# EAGLE library part B13B-EH-A (library con-jst-eh)
HEADER
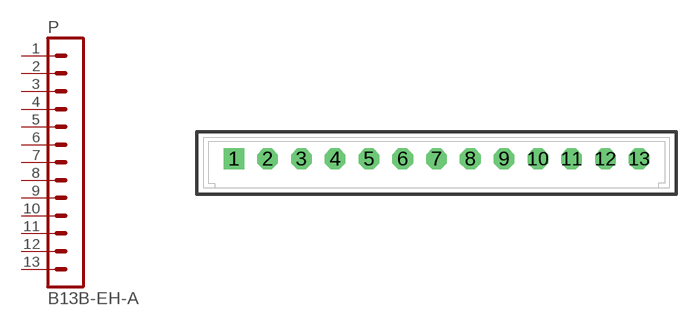
[diagram p7: symbol with the pads of B13B-EH-A; footprint B13B-EH-A]

Designator prefix P

## B13B-EH-A  [B13B-EH-A]
1  1  pas
2  2  pas
3  3  pas
4  4  pas
5  5  pas
6  6  pas
7  7  pas
8  8  pas
9  9  pas
10  10  pas
11  11  pas
12  12  pas
13  13  pas

## Footprint B13B-EH-A (pad centres in mm)
HEADER
drill 1.016 square: 1 -15,0
drill 1.016 octagon: 2 -12.5,0; 3 -10,0; 4 -7.5,0; 5 -5,0; 6 -2.5,0; 7 0,0; 8 2.5,0; 9 5,0; 10 7.5,0; 11 10,0; 12 12.5,0; 13 15,0